# EAGLE library part 61206020621 (library Wire-to-Board)
WR-BHD 2.54mm Male SMT Box Header High Temperature, 60 pins=>Code : Con_WTB_BHD_2.54_Male_THT_WS_61206020621 <http://katalog.we-online.de/media/thumbs2/eican/thb_Con_WTB_BHD_2.54_Male_THT_WS_6120xx21621_pf2.jpg> Details see: http://katalog.we-online.de/en/em/612_0xx_216_21 Created 2014-06-04, Karrer Zheng 2014 (C) Würth Elektronik
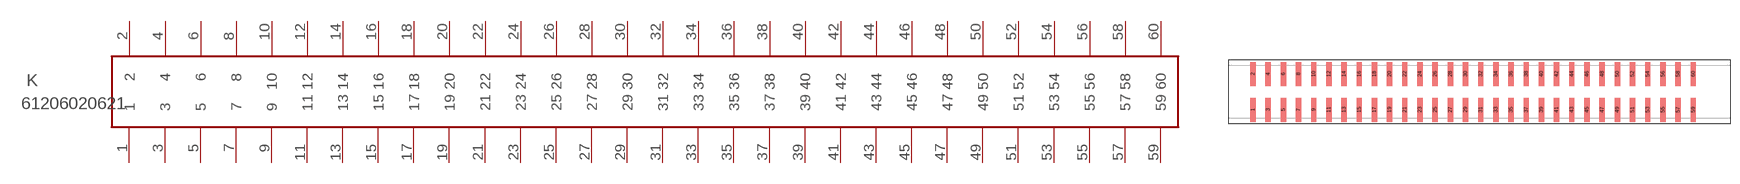
[diagram p202: symbol with the pads of 61206020621; footprint 61206020621]

Designator prefix K

## 61206020621  [61206020621]
1  1  pas
2  2  pas
3  3  pas
4  4  pas
5  5  pas
6  6  pas
7  7  pas
8  8  pas
9  9  pas
10  10  pas
11  11  pas
12  12  pas
13  13  pas
14  14  pas
15  15  pas
16  16  pas
17  17  pas
18  18  pas
19  19  pas
20  20  pas
21  21  pas
22  22  pas
23  23  pas
24  24  pas
25  25  pas
26  26  pas
27  27  pas
28  28  pas
29  29  pas
30  30  pas
31  31  pas
32  32  pas
33  33  pas
34  34  pas
35  35  pas
36  36  pas
37  37  pas
38  38  pas
39  39  pas
40  40  pas
41  41  pas
42  42  pas
43  43  pas
44  44  pas
45  45  pas
46  46  pas
47  47  pas
48  48  pas
49  49  pas
50  50  pas
51  51  pas
52  52  pas
53  53  pas
54  54  pas
55  55  pas
56  56  pas
57  57  pas
58  58  pas
59  59  pas
60  60  pas

## Footprint 61206020621 (pad centres in mm)
WR-BHD 2.54mm Male SMT Box Header High Temperature, 60 pins
smd 0.9 x 4: 1 -30.48,-3; 2 -30.48,3; 3 -27.94,-3; 4 -27.94,3; 5 -25.4,-3; 6 -25.4,3; 7 -22.86,-3; 8 -22.86,3; 9 -20.32,-3; 10 -20.32,3; 11 -17.78,-3; 12 -17.78,3; 13 -15.24,-3; 14 -15.24,3; 15 -12.7,-3; 16 -12.7,3; 17 -10.16,-3; 18 -10.16,3; 19 -7.62,-3; 20 -7.62,3; 21 -5.08,-3; 22 -5.08,3; 23 -2.54,-3; 24 -2.54,3; 25 0,-3; 26 0,3; 27 2.54,-3; 28 2.54,3; 29 5.08,-3; 30 5.08,3; 31 7.62,-3; 32 7.62,3; 33 10.16,-3; 34 10.16,3; 35 12.7,-3; 36 12.7,3; 37 15.24,-3; 38 15.24,3; 39 17.78,-3; 40 17.78,3; 41 20.32,-3; 42 20.32,3; 43 22.86,-3; 44 22.86,3; 45 25.4,-3; 46 25.4,3; 47 27.94,-3; 48 27.94,3; 49 30.48,-3; 50 30.48,3; 51 33.02,-3; 52 33.02,3; 53 35.56,-3; 54 35.56,3; 55 38.1,-3; 56 38.1,3; 57 40.64,-3; 58 40.64,3; 59 43.18,-3; 60 43.18,3